# Altium footprint library DPAK.PcbLib: 1 footprints
Each footprint in its own frame and in the unit in brackets; x right, y up, seen from the top. Pads: shape width x height; smd on the part's side, far side on the other; paste and mask are expansions set on the pad; w line width, h text height; cw(c..) or ccw(c..) is an arc to the next point about the centre after c.
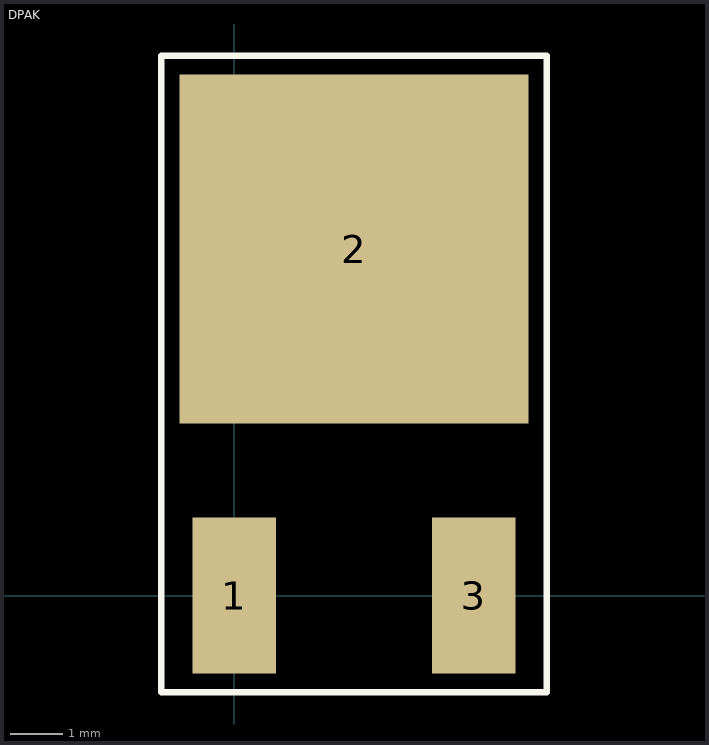
[diagram p0: the footprint, top view; thin cyan lines are the x and y axes]

## DPAK [mm]
pads (3):
  rect 1.6x3 smd: 1(0,0) 3(4.6,0)
  rect 6.7x6.7 smd: 2(2.3,6.65)
Top Overlay:
  lines w0.127: -1.397,-1.854 5.997,-1.854 5.997,10.363 -1.397,10.363 -1.397,-1.854
3D body: height 2.36, standoff -0.05, extent -0.977,-0.854 5.563,9.084